# Altium integrated library Connectors Power.IntLib: 4 symbols
Pins are listed as number, name and electrical type; pins without a type are passive.

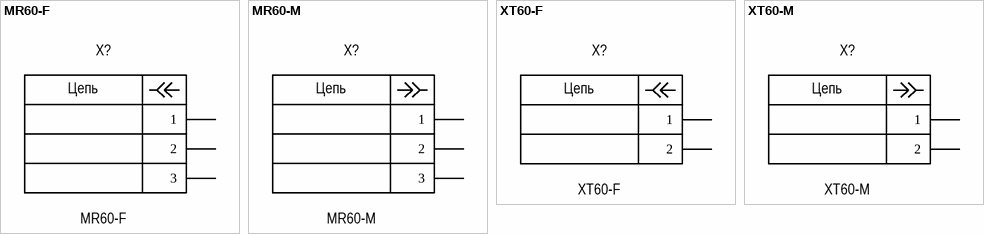
[diagram p0: symbols MR60-F to XT60-M]

## MR60-F
designator X?
Connector Power 5.50 F 3P Wire; Manufacturer: Amass; Group: Mechanical; Pitch: 5.50mm; Positions: 3; Rows: 1; Current rating: 60.0A; Voltage rating: 500V; Placing: Vertical; Shrouding: Shrouded; Connector type: Socket; Series name: MR; Dimension: 9.20mm x 20.20mm; Operating temperature: -20°C +120°C; Mounting type: Through hole; Package: Connector Power 5.50 F 3P Wire; Part name: MR60-F; Height: 14.00mm; Insulation color: Yellow; Component: Connector Power; Contact type: Female pin; Fastening type: Push-pull; Series: MR; Connector style: Wire; System: Connector
footprint MR60-F
pins: 1, 2, 3
text: Цепь

## MR60-M
designator X?
Connector Power 5.50 M 3P Wire; Manufacturer: Amass; Group: Mechanical; Pitch: 5.50mm; Positions: 3; Rows: 1; Current rating: 60.0A; Voltage rating: 500V; Placing: Vertical; Shrouding: Shrouded; Connector type: Plug; Series name: MR; Dimension: 9.20mm x 20.20mm; Operating temperature: -20°C +120°C; Mounting type: Through hole; Package: Connector Power 5.50 M 3P Wire; Part name: MR60-M; Height: 14.00mm; Insulation color: Yellow; Component: Connector Power; Contact type: Male pin; Fastening type: Push-pull; Series: MR; Connector style: Wire; System: Connector
pins: 1, 2, 3
text: Цепь

## XT60-F
designator X?
Connector Power 7.20 F 2P Wire; Manufacturer: Amass; Group: Mechanical; Pitch: 7.20mm; Positions: 2; Rows: 1; Current rating: 60.0A; Voltage rating: 500V; Placing: Vertical; Shrouding: Shrouded; Connector type: Socket; Series name: MR; Dimension: 8.10mm x 15.50mm; Operating temperature: -20°C +120°C; Mounting type: Through hole; Package: Connector Power 7.20 F 2P Wire; Part name: XT60-F; Height: 15.70mm; Insulation color: Yellow; Component: Connector Power; Contact type: Female pin; Fastening type: Push-pull; Series: XT; Connector style: Wire; System: Connector
pins: 1, 2
text: Цепь

## XT60-M
designator X?
Connector Power 7.20 M 2P Wire; Manufacturer: Amass; Group: Mechanical; Pitch: 7.20mm; Positions: 2; Rows: 1; Current rating: 60.0A; Voltage rating: 500V; Placing: Vertical; Shrouding: Shrouded; Connector type: Plug; Series name: MR; Dimension: 8.10mm x 15.50mm; Operating temperature: -20°C +120°C; Mounting type: Through hole; Package: Connector Power 7.20 M 2P Wire; Part name: XT60-M; Height: 15.70mm; Insulation color: Yellow; Component: Connector Power; Contact type: Male pin; Fastening type: Push-pull; Series: XT; Connector style: Wire; System: Connector
footprint XT60-M
pins: 1, 2
text: Цепь